# Altium footprint library Battery100mAh.PcbLib: 1 footprints
Each footprint in its own frame and in the unit in brackets; x right, y up, seen from the top. Pads: shape width x height; smd on the part's side, far side on the other; paste and mask are expansions set on the pad; w line width, h text height; cw(c..) or ccw(c..) is an arc to the next point about the centre after c.
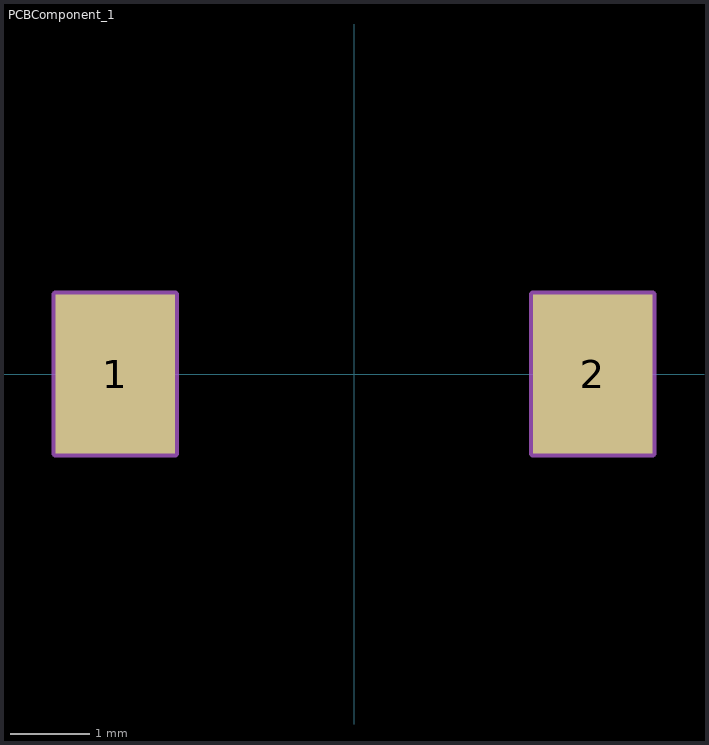
[diagram p0: the footprint, top view; thin cyan lines are the x and y axes]

## PCBComponent_1 [mm]
pads (3):
  rect 1.5x2 smd: 1(-3,0) 1(-3,0) 2(3,0)
Courtyard Top:
  lines w0.1: -3.75,-1 -3.75,1 -2.25,1 -2.25,-1 -3.75,-1 ; 2.25,-1 2.25,1 3.75,1 3.75,-1 2.25,-1
3D body: height 0.1, standoff 0, extent 2.25,-1 3.75,1
3D body: height 0.1, standoff 0, extent -3.75,-1 -2.25,1